# Altium schematic symbol library FBMJ1608HS220NTR.SchLib: 1 symbol
Pins are listed as number, name and electrical type; pins without a type are passive.

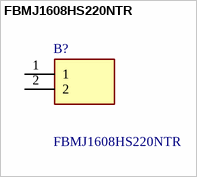
[diagram p0: symbol FBMJ1608HS220NTR]

## FBMJ1608HS220NTR
designator B?
TAIYO YUDEN - FBMJ1608HS220NTR - FERRITE BEAD, 22 OHM, 7.5A, 0603; Geometry.Height: 1mm; Mouser Part Number: 963-FBMJ1608HS220NTR; Mouser Price/Stock: https://www.mouser.co.uk/ProductDetail/TAIYO-YUDEN/FBMJ1608HS220NTR?qs=qEEMd6hQM8XfqBRLulOo%2FQ%3D%3D; Manufacturer_Name: TAIYO YUDEN; Manufacturer_Part_Number: FBMJ1608HS220NTR; Datasheet Link: *
footprint BEADC1608X100N
pins: 1, 2